# EAGLE library part 418121160805 (library Switches_rev16a)
WS-IC-2.54 mm small compact SMD Dip Switch with top tape,10 pins,5 poles
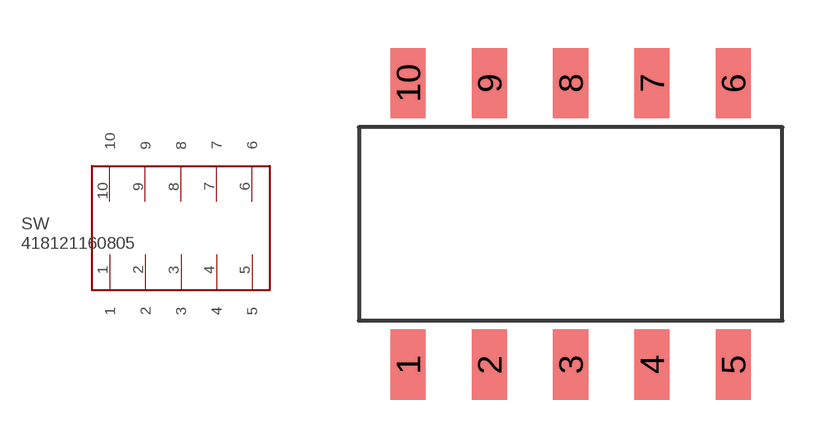
[diagram p33: symbol with the pads of 418121160805; footprint 418121160805]

Designator prefix SW

## 418121160805  [418121160805]
1  1
2  2
3  3
4  4
5  5
6  6
7  7
8  8
9  9
10  10

## Footprint 418121160805 (pad centres in mm)
WS-IC-2.54 mm small compact SMD Dip Switch with top tape,10 pins,5 poles
smd 1.1 x 2.2: 1 -5.08,-4.4; 2 -2.54,-4.4; 3 0,-4.4; 4 2.54,-4.4; 5 5.08,-4.4; 6 5.08,4.4; 7 2.54,4.4; 8 0,4.4; 9 -2.54,4.4; 10 -5.08,4.4